# EAGLE library part TE0600 (library lib-te0600-eagle)
TE0600 datasheets LSHM Connector <http://www.samtec.com/ProductInformation/TechnicalSpecifications/Prints.aspx?series=LSHM> TE0600 Trenz archive <http://www.trenz-electronic.de/de/download/d0/Trenz_Electronic/d1/TE0600-GigaBee_series/d2/TE0600/d3/documents.html> update 12.04.2013: - FPGA pins added to symbols designed by: steffen.mauch (at) gmail.com copyright (c) 2012/2013
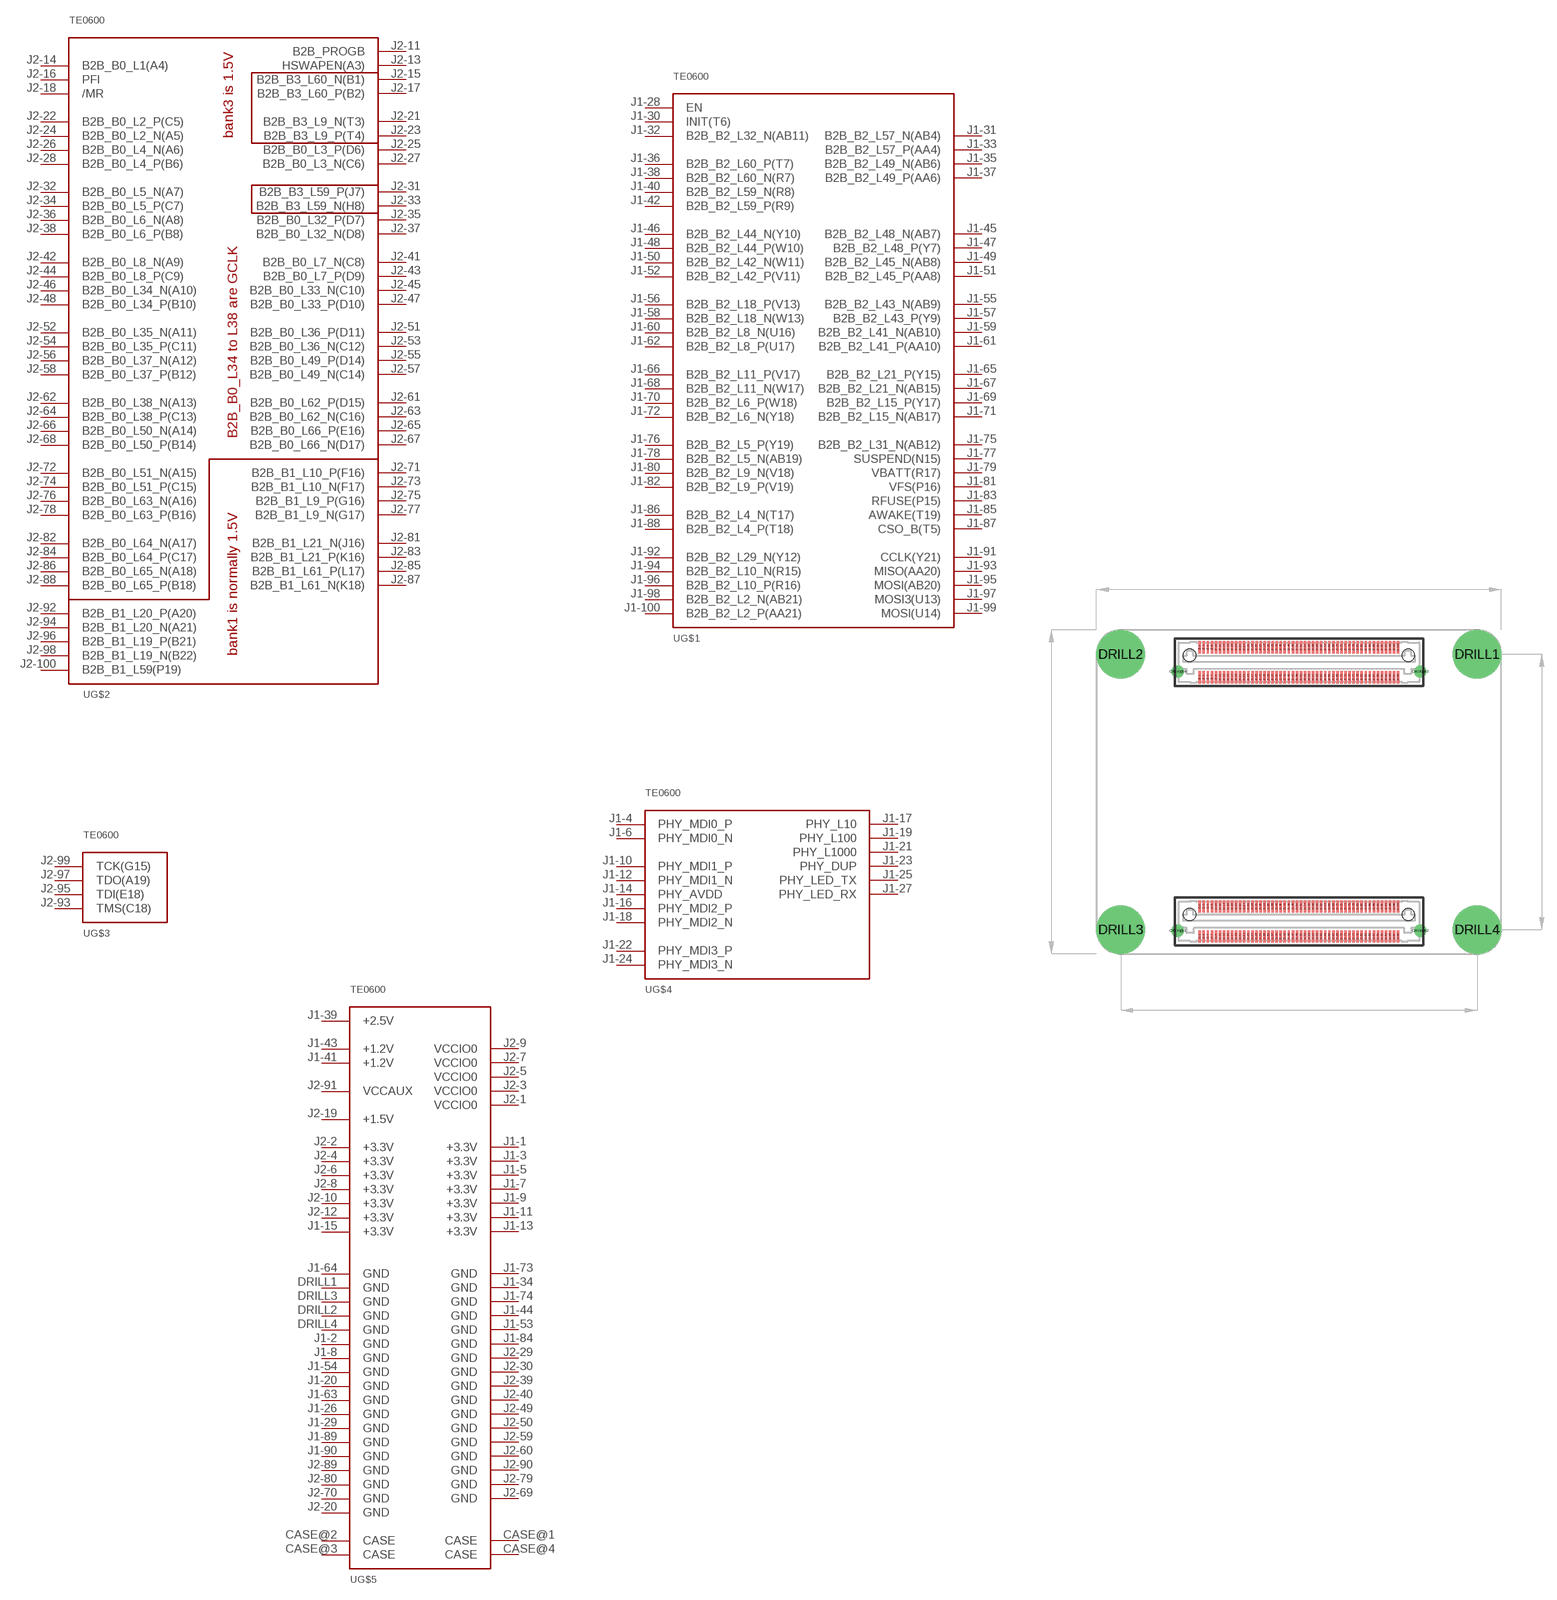
[diagram p0: symbol with the pads of TE0600; footprint TE0600]

Designator prefix -; gates G$1=TE0600-J1 G$2=TE0600-J2 G$3=TE0600-JTAG G$4=TE0600-PHY G$5=TE0600-PWR

## TE0600  [TE0600]
CASE@1  G$5:CASE  sup
CASE@2  G$5:CASE  sup
CASE@3  G$5:CASE  sup
CASE@4  G$5:CASE  sup
DRILL1  G$5:GND  sup
DRILL2  G$5:GND  sup
DRILL3  G$5:GND  sup
DRILL4  G$5:GND  sup
J1-1  G$5:+3.3V  pwr
J1-2  G$5:GND  sup
J1-3  G$5:+3.3V  pwr
J1-4  G$4:PHY_MDI0_P
J1-5  G$5:+3.3V  pwr
J1-6  G$4:PHY_MDI0_N
J1-7  G$5:+3.3V  pwr
J1-8  G$5:GND  sup
J1-9  G$5:+3.3V  pwr
J1-10  G$4:PHY_MDI1_P
J1-11  G$5:+3.3V  pwr
J1-12  G$4:PHY_MDI1_N
J1-13  G$5:+3.3V  pwr
J1-14  G$4:PHY_AVDD
J1-15  G$5:+3.3V  pwr
J1-16  G$4:PHY_MDI2_P
J1-17  G$4:PHY_L10
J1-18  G$4:PHY_MDI2_N
J1-19  G$4:PHY_L100
J1-20  G$5:GND  sup
J1-21  G$4:PHY_L1000
J1-22  G$4:PHY_MDI3_P
J1-23  G$4:PHY_DUP
J1-24  G$4:PHY_MDI3_N
J1-25  G$4:PHY_LED_TX
J1-26  G$5:GND  sup
J1-27  G$4:PHY_LED_RX
J1-28  G$1:EN
J1-29  G$5:GND  sup
J1-30  G$1:INIT(T6)
J1-31  G$1:B2B_B2_L57_N(AB4)
J1-32  G$1:B2B_B2_L32_N(AB11)
J1-33  G$1:B2B_B2_L57_P(AA4)
J1-34  G$5:GND  sup
J1-35  G$1:B2B_B2_L49_N(AB6)
J1-36  G$1:B2B_B2_L60_P(T7)
J1-37  G$1:B2B_B2_L49_P(AA6)
J1-38  G$1:B2B_B2_L60_N(R7)
J1-39  G$5:+2.5V  sup
J1-40  G$1:B2B_B2_L59_N(R8)
J1-41  G$5:+1.2V  sup
J1-42  G$1:B2B_B2_L59_P(R9)
J1-43  G$5:+1.2V  sup
J1-44  G$5:GND  sup
J1-45  G$1:B2B_B2_L48_N(AB7)
J1-46  G$1:B2B_B2_L44_N(Y10)
J1-47  G$1:B2B_B2_L48_P(Y7)
J1-48  G$1:B2B_B2_L44_P(W10)
J1-49  G$1:B2B_B2_L45_N(AB8)
J1-50  G$1:B2B_B2_L42_N(W11)
J1-51  G$1:B2B_B2_L45_P(AA8)
J1-52  G$1:B2B_B2_L42_P(V11)
J1-53  G$5:GND  sup
J1-54  G$5:GND  sup
J1-55  G$1:B2B_B2_L43_N(AB9)
J1-56  G$1:B2B_B2_L18_P(V13)
J1-57  G$1:B2B_B2_L43_P(Y9)
J1-58  G$1:B2B_B2_L18_N(W13)
J1-59  G$1:B2B_B2_L41_N(AB10)
J1-60  G$1:B2B_B2_L8_N(U16)
J1-61  G$1:B2B_B2_L41_P(AA10)
J1-62  G$1:B2B_B2_L8_P(U17)
J1-63  G$5:GND  sup
J1-64  G$5:GND  sup
J1-65  G$1:B2B_B2_L21_P(Y15)
J1-66  G$1:B2B_B2_L11_P(V17)
J1-67  G$1:B2B_B2_L21_N(AB15)
J1-68  G$1:B2B_B2_L11_N(W17)
J1-69  G$1:B2B_B2_L15_P(Y17)
J1-70  G$1:B2B_B2_L6_P(W18)
J1-71  G$1:B2B_B2_L15_N(AB17)
J1-72  G$1:B2B_B2_L6_N(Y18)
J1-73  G$5:GND  sup
J1-74  G$5:GND  sup
J1-75  G$1:B2B_B2_L31_N(AB12)
J1-76  G$1:B2B_B2_L5_P(Y19)
J1-77  G$1:SUSPEND(N15)
J1-78  G$1:B2B_B2_L5_N(AB19)
J1-79  G$1:VBATT(R17)
J1-80  G$1:B2B_B2_L9_N(V18)
J1-81  G$1:VFS(P16)
J1-82  G$1:B2B_B2_L9_P(V19)
J1-83  G$1:RFUSE(P15)
J1-84  G$5:GND  sup
J1-85  G$1:AWAKE(T19)
J1-86  G$1:B2B_B2_L4_N(T17)
J1-87  G$1:CSO_B(T5)
J1-88  G$1:B2B_B2_L4_P(T18)
J1-89  G$5:GND  sup
J1-90  G$5:GND  sup
J1-91  G$1:CCLK(Y21)
J1-92  G$1:B2B_B2_L29_N(Y12)
J1-93  G$1:MISO(AA20)
J1-94  G$1:B2B_B2_L10_N(R15)
J1-95  G$1:MOSI(AB20)
J1-96  G$1:B2B_B2_L10_P(R16)
J1-97  G$1:MOSI3(U13)
J1-98  G$1:B2B_B2_L2_N(AB21)
J1-99  G$1:MOSI(U14)
J1-100  G$1:B2B_B2_L2_P(AA21)
J2-1  G$5:VCCIO0
J2-2  G$5:+3.3V  pwr
J2-3  G$5:VCCIO0
J2-4  G$5:+3.3V  pwr
J2-5  G$5:VCCIO0
J2-6  G$5:+3.3V  pwr
J2-7  G$5:VCCIO0
J2-8  G$5:+3.3V  pwr
J2-9  G$5:VCCIO0
J2-10  G$5:+3.3V  pwr
J2-11  G$2:B2B_PROGB
J2-12  G$5:+3.3V  pwr
J2-13  G$2:HSWAPEN(A3)
J2-14  G$2:B2B_B0_L1(A4)
J2-15  G$2:B2B_B3_L60_N(B1)
J2-16  G$2:PFI
J2-17  G$2:B2B_B3_L60_P(B2)
J2-18  G$2:/MR
J2-19  G$5:+1.5V  sup
J2-20  G$5:GND  sup
J2-21  G$2:B2B_B3_L9_N(T3)
J2-22  G$2:B2B_B0_L2_P(C5)
J2-23  G$2:B2B_B3_L9_P(T4)
J2-24  G$2:B2B_B0_L2_N(A5)
J2-25  G$2:B2B_B0_L3_P(D6)
J2-26  G$2:B2B_B0_L4_N(A6)
J2-27  G$2:B2B_B0_L3_N(C6)
J2-28  G$2:B2B_B0_L4_P(B6)
J2-29  G$5:GND  sup
J2-30  G$5:GND  sup
J2-31  G$2:B2B_B3_L59_P(J7)
J2-32  G$2:B2B_B0_L5_N(A7)
J2-33  G$2:B2B_B3_L59_N(H8)
J2-34  G$2:B2B_B0_L5_P(C7)
J2-35  G$2:B2B_B0_L32_P(D7)
J2-36  G$2:B2B_B0_L6_N(A8)
J2-37  G$2:B2B_B0_L32_N(D8)
J2-38  G$2:B2B_B0_L6_P(B8)
J2-39  G$5:GND  sup
J2-40  G$5:GND  sup
J2-41  G$2:B2B_B0_L7_N(C8)
J2-42  G$2:B2B_B0_L8_N(A9)
J2-43  G$2:B2B_B0_L7_P(D9)
J2-44  G$2:B2B_B0_L8_P(C9)
J2-45  G$2:B2B_B0_L33_N(C10)
J2-46  G$2:B2B_B0_L34_N(A10)
J2-47  G$2:B2B_B0_L33_P(D10)
J2-48  G$2:B2B_B0_L34_P(B10)
J2-49  G$5:GND  sup
J2-50  G$5:GND  sup
J2-51  G$2:B2B_B0_L36_P(D11)
J2-52  G$2:B2B_B0_L35_N(A11)
J2-53  G$2:B2B_B0_L36_N(C12)
J2-54  G$2:B2B_B0_L35_P(C11)
J2-55  G$2:B2B_B0_L49_P(D14)
J2-56  G$2:B2B_B0_L37_N(A12)
J2-57  G$2:B2B_B0_L49_N(C14)
J2-58  G$2:B2B_B0_L37_P(B12)
J2-59  G$5:GND  sup
J2-60  G$5:GND  sup
J2-61  G$2:B2B_B0_L62_P(D15)
J2-62  G$2:B2B_B0_L38_N(A13)
J2-63  G$2:B2B_B0_L62_N(C16)
J2-64  G$2:B2B_B0_L38_P(C13)
J2-65  G$2:B2B_B0_L66_P(E16)
J2-66  G$2:B2B_B0_L50_N(A14)
J2-67  G$2:B2B_B0_L66_N(D17)
J2-68  G$2:B2B_B0_L50_P(B14)
J2-69  G$5:GND  sup
J2-70  G$5:GND  sup
J2-71  G$2:B2B_B1_L10_P(F16)
J2-72  G$2:B2B_B0_L51_N(A15)
J2-73  G$2:B2B_B1_L10_N(F17)
J2-74  G$2:B2B_B0_L51_P(C15)
J2-75  G$2:B2B_B1_L9_P(G16)
J2-76  G$2:B2B_B0_L63_N(A16)
J2-77  G$2:B2B_B1_L9_N(G17)
J2-78  G$2:B2B_B0_L63_P(B16)
J2-79  G$5:GND  sup
J2-80  G$5:GND  sup
J2-81  G$2:B2B_B1_L21_N(J16)
J2-82  G$2:B2B_B0_L64_N(A17)
J2-83  G$2:B2B_B1_L21_P(K16)
J2-84  G$2:B2B_B0_L64_P(C17)
J2-85  G$2:B2B_B1_L61_P(L17)
J2-86  G$2:B2B_B0_L65_N(A18)
J2-87  G$2:B2B_B1_L61_N(K18)
J2-88  G$2:B2B_B0_L65_P(B18)
J2-89  G$5:GND  sup
J2-90  G$5:GND  sup
J2-91  G$5:VCCAUX  sup
J2-92  G$2:B2B_B1_L20_P(A20)
J2-93  G$3:TMS(C18)
J2-94  G$2:B2B_B1_L20_N(A21)
J2-95  G$3:TDI(E18)
J2-96  G$2:B2B_B1_L19_P(B21)
J2-97  G$3:TDO(A19)
J2-98  G$2:B2B_B1_L19_N(B22)
J2-99  G$3:TCK(G15)
J2-100  G$2:B2B_B1_L59(P19)

## Footprint TE0600 (pad centres in mm)
PCB Matrix Packages
drill 1: CASE@1 -14.975,2.863; CASE@2 14.975,2.863; CASE@3 14.975,34.855; CASE@4 -14.975,34.855
drill 3 pad 6: DRILL1 22,37; DRILL2 -22,37; DRILL3 -22,3; DRILL4 22,3
smd 0.3 x 1.5: J1-1 -12.25,2.15; J1-2 -12.25,5.85; J1-3 -11.75,2.15; J1-4 -11.75,5.85; J1-5 -11.25,2.15; J1-6 -11.25,5.85; J1-7 -10.75,2.15; J1-8 -10.75,5.85; J1-9 -10.25,2.15; J1-10 -10.25,5.85; J1-11 -9.75,2.15; J1-12 -9.75,5.85; J1-13 -9.25,2.15; J1-14 -9.25,5.85; J1-15 -8.75,2.15; J1-16 -8.75,5.85; J1-17 -8.25,2.15; J1-18 -8.25,5.85; J1-19 -7.75,2.15; J1-20 -7.75,5.85; J1-21 -7.25,2.15; J1-22 -7.25,5.85; J1-23 -6.75,2.15; J1-24 -6.75,5.85; J1-25 -6.25,2.15; J1-26 -6.25,5.85; J1-27 -5.75,2.15; J1-28 -5.75,5.85; J1-29 -5.25,2.15; J1-30 -5.25,5.85; J1-31 -4.75,2.15; J1-32 -4.75,5.85; J1-33 -4.25,2.15; J1-34 -4.25,5.85; J1-35 -3.75,2.15; J1-36 -3.75,5.85; J1-37 -3.25,2.15; J1-38 -3.25,5.85; J1-39 -2.75,2.15; J1-40 -2.75,5.85; J1-41 -2.25,2.15; J1-42 -2.25,5.85; J1-43 -1.75,2.15; J1-44 -1.75,5.85; J1-45 -1.25,2.15; J1-46 -1.25,5.85; J1-47 -0.75,2.15; J1-48 -0.75,5.85; J1-49 -0.25,2.15; J1-50 -0.25,5.85; J1-51 0.25,2.15; J1-52 0.25,5.85; J1-53 0.75,2.15; J1-54 0.75,5.85; J1-55 1.25,2.15; J1-56 1.25,5.85; J1-57 1.75,2.15; J1-58 1.75,5.85; J1-59 2.25,2.15; J1-60 2.25,5.85; J1-61 2.75,2.15; J1-62 2.75,5.85; J1-63 3.25,2.15; J1-64 3.25,5.85; J1-65 3.75,2.15; J1-66 3.75,5.85; J1-67 4.25,2.15; J1-68 4.25,5.85; J1-69 4.75,2.15; J1-70 4.75,5.85; J1-71 5.25,2.15; J1-72 5.25,5.85; J1-73 5.75,2.15; J1-74 5.75,5.85; J1-75 6.25,2.15; J1-76 6.25,5.85; J1-77 6.75,2.15; J1-78 6.75,5.85; J1-79 7.25,2.15; J1-80 7.25,5.85; J1-81 7.75,2.15; J1-82 7.75,5.85; J1-83 8.25,2.15; J1-84 8.25,5.85; J1-85 8.75,2.15; J1-86 8.75,5.85; J1-87 9.25,2.15; J1-88 9.25,5.85; J1-89 9.75,2.15; J1-90 9.75,5.85; J1-91 10.25,2.15; J1-92 10.25,5.85; J1-93 10.75,2.15; J1-94 10.75,5.85; J1-95 11.25,2.15; J1-96 11.25,5.85; J1-97 11.75,2.15; J1-98 11.75,5.85; J1-99 12.25,2.15; J1-100 12.25,5.85; J2-1 -12.25,34.15; J2-2 -12.25,37.85; J2-3 -11.75,34.15; J2-4 -11.75,37.85; J2-5 -11.25,34.15; J2-6 -11.25,37.85; J2-7 -10.75,34.15; J2-8 -10.75,37.85; J2-9 -10.25,34.15; J2-10 -10.25,37.85; J2-11 -9.75,34.15; J2-12 -9.75,37.85; J2-13 -9.25,34.15; J2-14 -9.25,37.85; J2-15 -8.75,34.15; J2-16 -8.75,37.85; J2-17 -8.25,34.15; J2-18 -8.25,37.85; J2-19 -7.75,34.15; J2-20 -7.75,37.85; J2-21 -7.25,34.15; J2-22 -7.25,37.85; J2-23 -6.75,34.15; J2-24 -6.75,37.85; J2-25 -6.25,34.15; J2-26 -6.25,37.85; J2-27 -5.75,34.15; J2-28 -5.75,37.85; J2-29 -5.25,34.15; J2-30 -5.25,37.85; J2-31 -4.75,34.15; J2-32 -4.75,37.85; J2-33 -4.25,34.15; J2-34 -4.25,37.85; J2-35 -3.75,34.15; J2-36 -3.75,37.85; J2-37 -3.25,34.15; J2-38 -3.25,37.85; J2-39 -2.75,34.15; J2-40 -2.75,37.85; J2-41 -2.25,34.15; J2-42 -2.25,37.85; J2-43 -1.75,34.15; J2-44 -1.75,37.85; J2-45 -1.25,34.15; J2-46 -1.25,37.85; J2-47 -0.75,34.15; J2-48 -0.75,37.85; J2-49 -0.25,34.15; J2-50 -0.25,37.85; J2-51 0.25,34.15; J2-52 0.25,37.85; J2-53 0.75,34.15; J2-54 0.75,37.85; J2-55 1.25,34.15; J2-56 1.25,37.85; J2-57 1.75,34.15; J2-58 1.75,37.85; J2-59 2.25,34.15; J2-60 2.25,37.85; J2-61 2.75,34.15; J2-62 2.75,37.85; J2-63 3.25,34.15; J2-64 3.25,37.85; J2-65 3.75,34.15; J2-66 3.75,37.85; J2-67 4.25,34.15; J2-68 4.25,37.85; J2-69 4.75,34.15; J2-70 4.75,37.85; J2-71 5.25,34.15; J2-72 5.25,37.85; J2-73 5.75,34.15; J2-74 5.75,37.85; J2-75 6.25,34.15; J2-76 6.25,37.85; J2-77 6.75,34.15; J2-78 6.75,37.85; J2-79 7.25,34.15; J2-80 7.25,37.85; J2-81 7.75,34.15; J2-82 7.75,37.85; J2-83 8.25,34.15; J2-84 8.25,37.85; J2-85 8.75,34.15; J2-86 8.75,37.85; J2-87 9.25,34.15; J2-88 9.25,37.85; J2-89 9.75,34.15; J2-90 9.75,37.85; J2-91 10.25,34.15; J2-92 10.25,37.85; J2-93 10.75,34.15; J2-94 10.75,37.85; J2-95 11.25,34.15; J2-96 11.25,37.85; J2-97 11.75,34.15; J2-98 11.75,37.85; J2-99 12.25,34.15; J2-100 12.25,37.85
hole 1.5 at -13.5,4.863
hole 1.5 at 13.5,4.863
hole 1.5 at -13.5,36.855
hole 1.5 at 13.5,36.855